# Altium footprint library OD_PCB.PcbLib: 7 footprints
Each footprint in its own frame and in the unit in brackets; x right, y up, seen from the top. Pads: shape width x height; smd on the part's side, far side on the other; paste and mask are expansions set on the pad; w line width, h text height; cw(c..) or ccw(c..) is an arc to the next point about the centre after c.
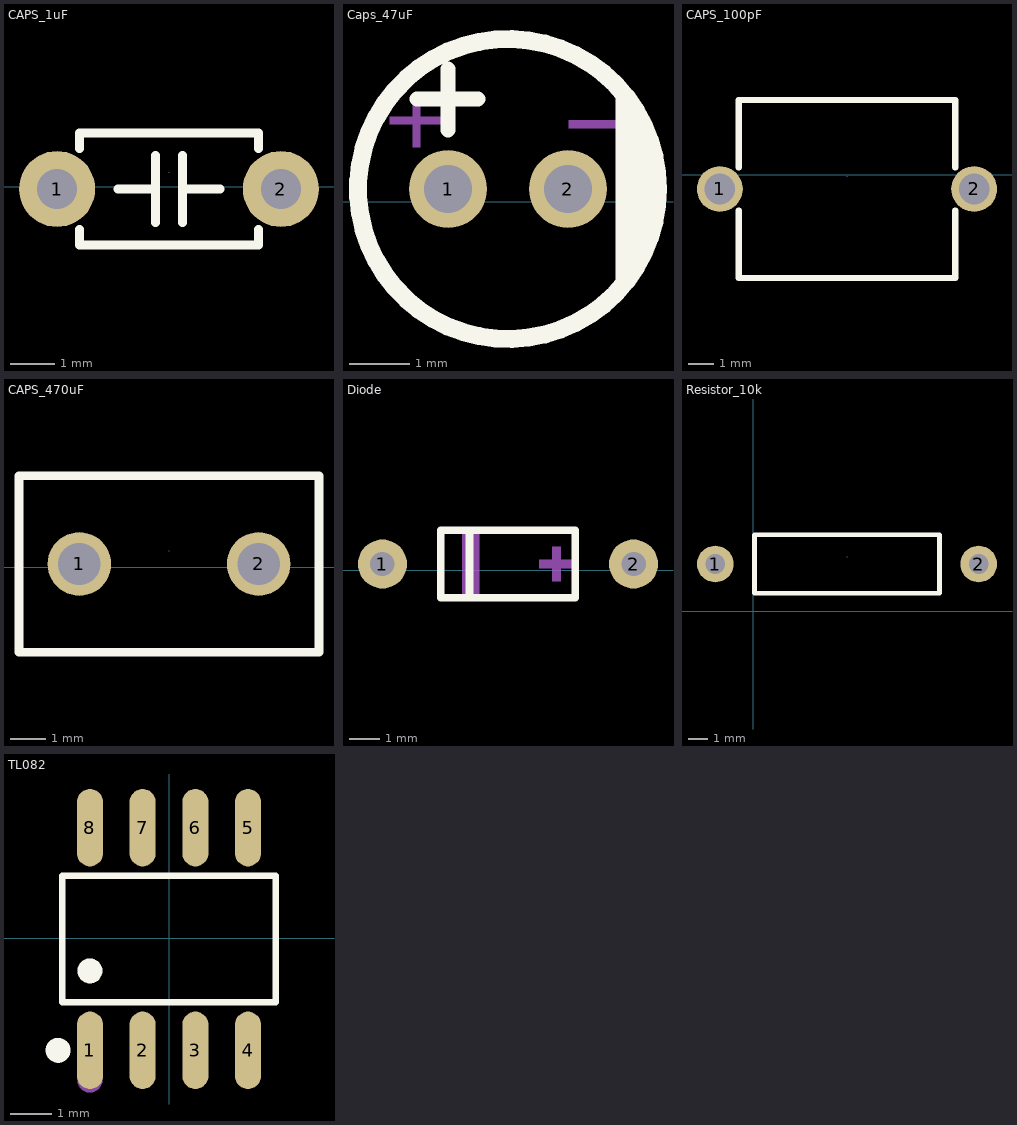
[diagram p0: the footprints below, top view; thin cyan lines are the x and y axes]

## CAPS_1uF [mm]
pads (2):
  round 1.7 hole 0.9: 1(3.009,-0.047) 2(8.009,-0.047)
Top Overlay:
  lines w0.2: 3.509,-0.948 3.509,-1.297 7.509,-1.297 7.509,-0.948 ; 3.509,0.854 3.509,1.203 7.509,1.203 7.509,0.854 ; 4.366,-0.048 5.209,-0.048 ; 5.209,-0.797 5.209,0.703 ; 5.809,-0.797 5.809,0.703 ; 5.809,-0.046 6.652,-0.046
Mechanical 15:
  lines w0.003: 5.509,0.326 5.509,0.326

## Caps_47uF [mm]
pads (2):
  round 1.3 hole 0.8: 1(5.44,0.214) 2(7.44,0.214)
Top Overlay:
  circle w0.3: c6.44,0.214 r2.5
  region: 8.234,1.865 8.401,1.705 8.665,1.325 8.847,0.899 8.94,0.446 8.94,-0.017 8.847,-0.471 8.665,-0.897 8.401,-1.277 8.234,-1.437
  lines w0.254: 4.924,1.714 5.94,1.714 ; 5.44,1.198 5.44,2.214
Mechanical 15:
  region: 7.456,1.357 8.345,1.357 8.345,1.23 7.456,1.23
  region: 4.853,0.913 4.853,1.802 4.98,1.802 4.98,0.913
  region: 4.472,1.421 5.361,1.421 5.361,1.294 4.472,1.294

## CAPS_100pF [mm]
pads (2):
  round 1.8 hole 1.2: 1(6.869,-0.564) 2(16.869,-0.564)
Top Overlay:
  lines w0.254: 7.619,-1.41 7.619,-4.064 16.119,-4.064 16.119,-1.41 ; 7.619,0.282 7.619,2.936 16.119,2.936 16.119,0.282
Mechanical 15:
  lines w0.003: 11.869,-0.06 11.869,-0.059

## CAPS_470uF [mm]
pads (2):
  round 1.8 hole 1.2: 1(4.885,0.087) 2(9.965,0.087)
Top Overlay:
  lines w0.254: 3.175,-2.413 11.675,-2.413 11.675,2.587 3.175,2.587 3.175,-2.413
Mechanical 15:
  lines w0.003: 7.425,0.456 7.425,0.457

## Diode [mm]
pads (2):
  round 1.6 hole 0.8: 1(3.34,0.211) 2(11.54,0.211)
Top Overlay:
  lines w0.254: 6.179,-0.889 6.179,1.311 ; 5.24,-0.889 9.64,-0.889 9.64,1.311 5.24,1.311 5.24,-0.889
Mechanical 15:
  region: 6.5,1.331 5.94,1.331 5.94,-0.909 6.5,-0.909
  region: 8.74,0.351 9.58,0.351 9.58,0.071 8.74,0.071 8.46,0.071 8.46,0.351
  region: 8.88,-0.069 8.88,0.771 9.16,0.771 9.16,-0.069 9.16,-0.349 8.88,-0.349

## Resistor_10k [mil]
pads (2):
  round 74 hole 39.37: 1(-76.23,95.77) 2(455.26,95.77)
Top Overlay:
  lines w10: 2.51,36.71 376.52,36.71 376.52,154.82 2.51,154.82 2.51,36.71
Mechanical 15:
  lines w0.1: 189.51,109.98 189.53,110

## TL082 [mm] "Amplifier"
pads (8):
  oval 0.63x1.865 smd: 1(-1.905,-2.698) 2(-0.635,-2.698) 3(0.635,-2.698) 4(1.905,-2.698) 5(1.905,2.667) 6(0.635,2.667) 7(-0.635,2.667) 8(-1.905,2.667)
Top Overlay:
  circle w0.3: c-1.905,-0.785 r0.15
  circle w0.3: c-2.672,-2.698 r0.15
  lines w0.152: -2.576,-1.537 -2.576,1.506 2.576,1.506 2.576,-1.537 -2.576,-1.537
Mechanical 15:
  circle w0.3: c-1.905,-3.416 r0.15